# Altium integrated library RCLAMP3324P.TCT.IntLib: 1 symbol
Pins are listed as number, name and electrical type; pins without a type are passive.

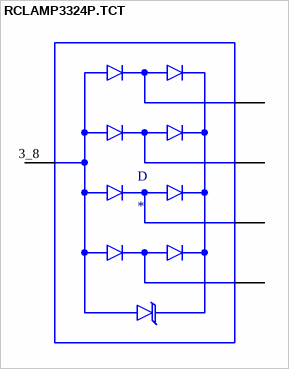
[diagram p0: symbol RCLAMP3324P.TCT]

## RCLAMP3324P.TCT
designator D
4.5V Clamp 4.5A _8/20Âµs_ Ipp Tvs Diode Surface Mount SGP2510P8; MF: Semtech Corporation; MP: RCLAMP3324P.TCT; Price: None; Value: *; Package: UFDFN-8 Semtech; Availability: Unavailable; SnapEDA_Link: https://www.snapeda.com/parts/RCLAMP3324P.TCT/Semtech%20Corporation/view-part/754476/?ref=snap
footprint DIO_RCLAMP3324P.TCT
pins: 1, 2, 3_8 GND, 4, 5, 6 5, 7 4, 9 2, 10 1